# EAGLE library part WE-RJ45_7498111001A (library 7499511611A_Eagle_WE-RJ45_rev20a)
WE-RJ45 LAN Transformer Characteristics RJ45 Connector with integrated transformer / common mode choke Power over Ethernet up to 50 Watt and speeds up to 10 Gbit/s Available in SMD, THT and THT with USB Compliant with standards: IEEE 802.3u, IEEE 802.3ab, IEEE 802.3af, IEEE 802.3at, IEEE 802.3an and upcoming IEE 802.3bt Applications Suitable for industrial temperatures from –40 °C up to +85 °C Compatible to Industrial Ethernet systems like EtherCAT or Profinet Compliant with most IC’s for Ethernet applications such as Microchip, Texas Instruments, Broadcom, Linear Technology Hubs, Routers, Switches, IP cameras, IoT applications <https://katalog.we-online.com/media/images/v2/o35731v209%20Family_WE-RJ45-LAN.jpg> Details see: https://katalog.we-online.com/en/pbs/WE-LAN-RJ45 Updated by Ella Wu 2019-08-05 2019 (C) Wurth Elektronik
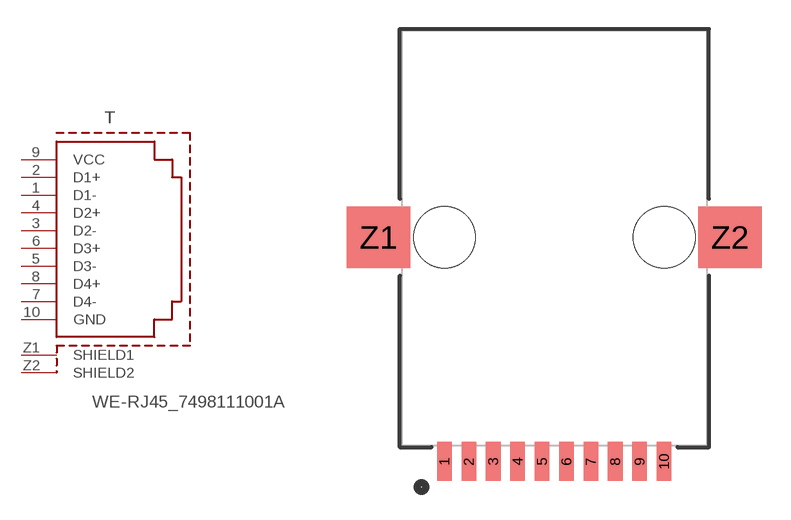
[diagram p31: symbol with the pads of 7498111001A; footprint 7498111001A]

Designator prefix T

## WE-RJ45_7498111001A (DATA-RATE: 10/100/1000 Base-T; DATASHEET-URL: https://www.we-online.com/catalog/datasheet/7498111001A.pdf; LED: -; MOUNT: SMT; PART-NUMBER: 7498111001A; POE: non-PoE; PORTS: 1; USB: No)  [7498111001A]
1  D1-
2  D1+
3  D2-
4  D2+
5  D3-
6  D3+
7  D4-
8  D4+
9  VCC
10  GND  pwr
Z1  SHIELD1  pwr
Z2  SHIELD2  pwr

## Footprint 7498111001A (pad centres in mm)
WE-RJ45 LAN Transformer 10/100/1000 Base-T
smd 0.76 x 2.03: 1 -5.715,-11.68; 2 -4.445,-11.68; 3 -3.175,-11.68; 4 -1.905,-11.68; 5 -0.635,-11.68; 6 0.635,-11.68; 7 1.905,-11.68; 8 3.175,-11.68; 9 4.445,-11.68; 10 5.715,-11.68
smd 3.3 x 3.18: Z1 -9.145,0; Z2 9.145,0
hole 3.22 at -5.715,0
hole 3.22 at 5.715,0